# Altium footprint library 651005136521.PcbLib: 1 footprints
Each footprint in its own frame and in the unit in brackets; x right, y up, seen from the top. Pads: shape width x height; smd on the part's side, far side on the other; paste and mask are expansions set on the pad; w line width, h text height; cw(c..) or ccw(c..) is an arc to the next point about the centre after c.
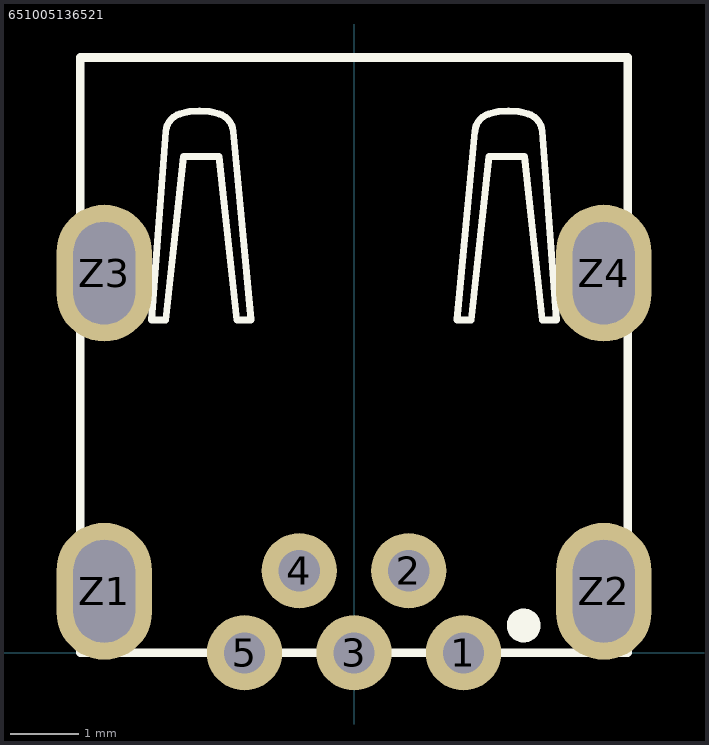
[diagram p0: the footprint, top view; thin cyan lines are the x and y axes]

## 651005136521 [mm] "5 pins"
height 3.9
pads (9):
  round 1.1 hole 0.6: 1(1.6,0) 2(0.8,1.2) 3(0,0) 4(-0.8,1.2) 5(-1.6,0)
  oval 1.4x2 hole 0.9 slot 1.5 at 90 deg: Z1(-3.65,0.9) Z2(3.65,0.9) Z3(-3.65,5.55) Z4(3.65,5.55)
Top Overlay:
  circle w0.254: c2.48,0.4 r0.12
  lines w0.102: -2.959,4.867 -2.751,4.867 -2.492,7.255 -1.973,7.255 -1.713,4.867 -1.505,4.867 -1.765,7.618 ccw(c-2.059,7.596) -1.972,7.878 ccw(c-2.258,6.947) -2.544,7.878 ccw(c-2.457,7.596) -2.751,7.618 -2.959,4.867 ; 1.505,4.867 1.713,4.867 1.973,7.255 2.492,7.255 2.751,4.867 2.959,4.867 2.751,7.618 ccw(c2.457,7.596) 2.544,7.878 ccw(c2.258,6.947) 1.973,7.878 ccw(c2.059,7.596) 1.765,7.618 1.505,4.867
  lines w0.127: -4,0 -4,8.7 4,8.7 4,0 -4,0
3D body "651005136521.stp": height 3.91, standoff -2.59, extent -4.075,-0.125 4.075,8.7